# EAGLE library part KAYO_ESP8266 (library kxn_Standard_MCU)
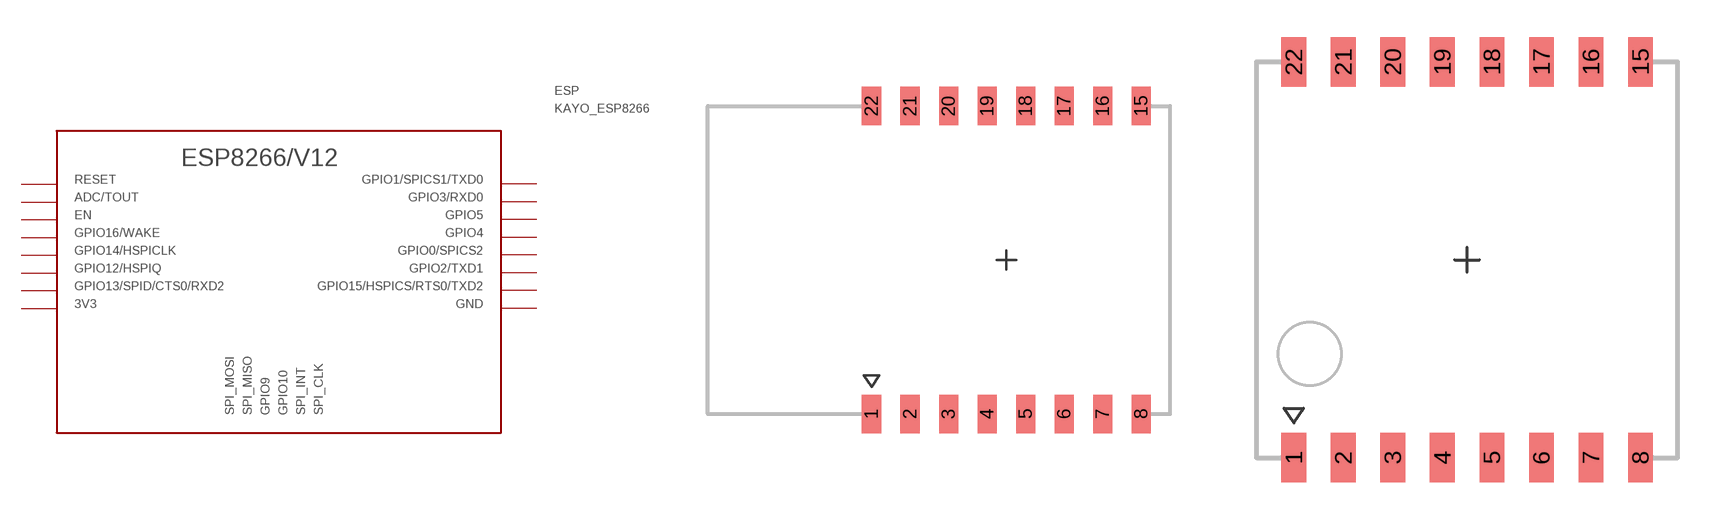
[diagram p1: symbol with the pads of ESP8266_12; footprints ESP8266_12, ESP8266_07S]

Designator prefix ESP

## KAYO_ESP8266_ESP8266_V12E/F  [ESP8266_12]
1  1
2  2
3  3
4  4
5  5
6  6
7  7
8  8
15  15
16  16
17  17
18  18
19  19
20  20
21  21
22  22

## KAYO_ESP8266_07S  [ESP8266_07S]
Pads as for ESP8266_12

## Footprint ESP8266_12 (pad centres in mm)
smd 1 x 2: 1 -7,-8; 2 -5,-8; 3 -3,-8; 4 -1,-8; 5 1,-8; 6 3,-8; 7 5,-8; 8 7,-8; 15 7,8; 16 5,8; 17 3,8; 18 1,8; 19 -1,8; 20 -3,8; 21 -5,8; 22 -7,8

## Footprint ESP8266_07S (pad centres in mm)
smd 1 x 2: 1 -7,-8; 2 -5,-8; 3 -3,-8; 4 -1,-8; 5 1,-8; 6 3,-8; 7 5,-8; 8 7,-8; 15 7,8; 16 5,8; 17 3,8; 18 1,8; 19 -1,8; 20 -3,8; 21 -5,8; 22 -7,8